# Altium schematic symbol library LDO_MIC5209_part2.SchLib: 1 symbol
Pins are listed as number, name and electrical type; pins without a type are passive.

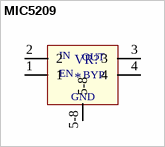
[diagram p0: symbol MIC5209]

## MIC5209
designator VR?
pins: 1 "EN", 2 "IN", 3 "OUT", 4 "BYP", 5-8 "GND"
text: OUT; IN; BYP; EN; GND